# EAGLE library part MALE_2X10 (library be_con_jump)
drawn: Mario Blunk / Blunk electronic
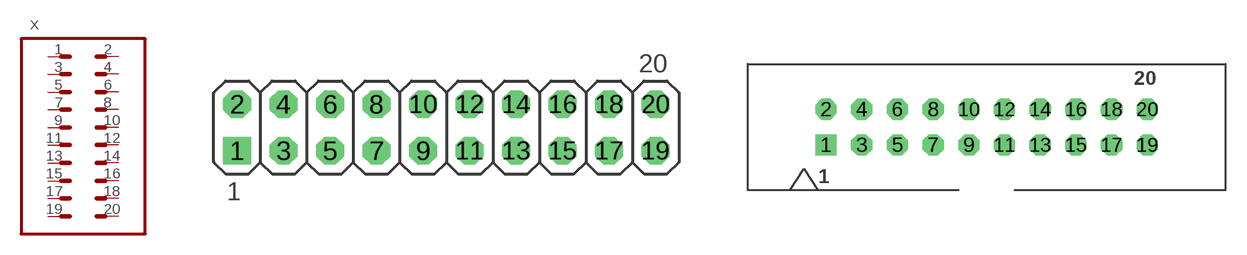
[diagram p4: symbol with the pads of T_MALE_2X10_VERTICAL_PITCH_2MM54; footprints T_MALE_2X10_VERTICAL_PITCH_2MM54, T_MALE_2X10_VERTICAL_PITCH_2M54_SHROUDED]

Designator prefix X

## MALE_2X10-T-VERTICAL_PITCH_2.54MM (BOM: YES; COMMISSIONED: 2013-08-30; PART_CODE_BEL: X_PAC_T_MALE_2X10_VERTICAL_PITCH_2mm54)  [T_MALE_2X10_VERTICAL_PITCH_2MM54]
1  1  pas
2  2  pas
3  3  pas
4  4  pas
5  5  pas
6  6  pas
7  7  pas
8  8  pas
9  9  pas
10  10  pas
11  11  pas
12  12  pas
13  13  pas
14  14  pas
15  15  pas
16  16  pas
17  17  pas
18  18  pas
19  19  pas
20  20  pas

## MALE_2X10-T-VERTICAL_PITCH_2MM54_SHROUDED (BOM: YES; COMMISSIONED: 2013-08-30; PART_CODE_BEL: X_PAC_T_MALE_2X10_VERTICAL_PITCH_2mm54_SHROUDED)  [T_MALE_2X10_VERTICAL_PITCH_2M54_SHROUDED]
Pads as for T_MALE_2X10_VERTICAL_PITCH_2MM54

## MALE_2X10-S-VERTICAL_1.27MM (BOM: YES; COMMISSIONED: 2013-08-30; PART_CODE_BEL: X_PAC_S_MALE_2X10_1364_SERIES_VERTICAL)  [S_MALE_2X10_VERTICAL_1.27MM]
Pads as for T_MALE_2X10_VERTICAL_PITCH_2MM54

## MALE_2X10-T-VERTICAL_1.27MM (BOM: YES; COMMISSIONED: 2013-12-17; PART_CODE_BEL: X_PAC_T_MALE_2X10_VERTICAL_1.27mm)  [T_MALE_2X10_VERTICAL_1.27MM]
Pads as for T_MALE_2X10_VERTICAL_PITCH_2MM54

## MALE_2X10-S-VERTICAL_2.54MM (BOM: YES; COMMISSIONED: 2014-02-03; PART_CODE_BEL: X_PAC_S_MALE_2X10_VERTICAL)  [S_MALE_2X10_VERTICAL]
Pads as for T_MALE_2X10_VERTICAL_PITCH_2MM54

## MALE_2X10-T-VERTICAL_2MM (BOM: YES; COMMISSIONED: 2014-03-19; PART_CODE_BEL: X_PAC_T_MALE_2X10_VERTICAL_2mm)  [T_MALE_2X10_VERTICAL_GRID_2MM]
Pads as for T_MALE_2X10_VERTICAL_PITCH_2MM54

## MALE_2X10-S-VERTICAL_2MM (BOM: YES; COMMISSIONED: 2014-03-19; PART_CODE_BEL: X_PAC_S_MALE_2X10_VERTICAL_2mm)  [S_MALE_2X10_VERTICAL_2MM]
Pads as for T_MALE_2X10_VERTICAL_PITCH_2MM54

## MALE_2X10-T-HORIZONTAL_PITCH_2M54 (BOM: YES; COMMISSIONED: 2019-05-16; PART_CODE_BEL: X_PAC_T_MALE_2X10_HORIZONTAL_PITCH_2mm54)  [T_MALE_2X10_HORIZONTAL_PITCH_2M54]
Pads as for T_MALE_2X10_VERTICAL_PITCH_2MM54

## Footprint T_MALE_2X10_VERTICAL_PITCH_2MM54 (pad centres in mm)
edited: Mario Blunk date: 2015-01-28
drill 1 square: 1 -11.43,-1.27
drill 1 octagon: 2 -11.43,1.27; 3 -8.89,-1.27; 4 -8.89,1.27; 5 -6.35,-1.27; 6 -6.35,1.27; 7 -3.81,-1.27; 8 -3.81,1.27; 9 -1.27,-1.27; 10 -1.27,1.27; 11 1.27,-1.27; 12 1.27,1.27; 13 3.81,-1.27; 14 3.81,1.27; 15 6.35,-1.27; 16 6.35,1.27; 17 8.89,-1.27; 18 8.89,1.27; 19 11.43,-1.27; 20 11.43,1.27

## Footprint T_MALE_2X10_VERTICAL_PITCH_2M54_SHROUDED (pad centres in mm)
edited: Mario Blunk / Blunk electronic date: 2019-05-20
drill 1 square: 1 -11.43,-1.27
drill 1 octagon: 2 -11.43,1.27; 3 -8.89,-1.27; 4 -8.89,1.27; 5 -6.35,-1.27; 6 -6.35,1.27; 7 -3.81,-1.27; 8 -3.81,1.27; 9 -1.27,-1.27; 10 -1.27,1.27; 11 1.27,-1.27; 12 1.27,1.27; 13 3.81,-1.27; 14 3.81,1.27; 15 6.35,-1.27; 16 6.35,1.27; 17 8.89,-1.27; 18 8.89,1.27; 19 11.43,-1.27; 20 11.43,1.27

## Footprint S_MALE_2X10_VERTICAL_1.27MM (pad centres in mm)
NOTE: No fixing post ! edited: Mario Blunk / Blunk electronic date: 2013-03-27
smd 0.76 x 2.4: 1 -5.715,-2.95; 2 -5.715,2.95; 3 -4.445,-2.95; 4 -4.445,2.95; 5 -3.175,-2.95; 6 -3.175,2.95; 7 -1.905,-2.95; 8 -1.905,2.95; 9 -0.635,-2.95; 10 -0.635,2.95; 11 0.635,-2.95; 12 0.635,2.95; 13 1.905,-2.95; 14 1.905,2.95; 15 3.175,-2.95; 16 3.175,2.95; 17 4.445,-2.95; 18 4.445,2.95; 19 5.715,-2.95; 20 5.715,2.95

## Footprint T_MALE_2X10_VERTICAL_1.27MM (pad centres in mm)
drawn: Mario Blunk / Blunk electronic edited: 2014-01-06
drill 0.65 pad 1.05 square: 1 -5.715,-0.635
drill 0.65 pad 1.05 octagon: 2 -5.715,0.635; 3 -4.445,-0.635; 4 -4.445,0.635; 5 -3.175,-0.635; 6 -3.175,0.635; 7 -1.905,-0.635; 8 -1.905,0.635; 9 -0.635,-0.635; 10 -0.635,0.635; 11 0.635,-0.635; 12 0.635,0.635; 13 1.905,-0.635; 14 1.905,0.635; 15 3.175,-0.635; 16 3.175,0.635; 17 4.445,-0.635; 18 4.445,0.635; 19 5.715,-0.635; 20 5.715,0.635

## Footprint S_MALE_2X10_VERTICAL (pad centres in mm)
male header package 2x10 drawn: Mario Blunk / Blunk electronic date: 2014-02-03
smd 1.5 x 4: 1 -11.43,-2.54; 2 -11.43,2.54; 3 -8.89,-2.54; 4 -8.89,2.54; 5 -6.35,-2.54; 6 -6.35,2.54; 7 -3.81,-2.54; 8 -3.81,2.54; 9 -1.27,-2.54; 10 -1.27,2.54; 11 1.27,-2.54; 12 1.27,2.54; 13 3.81,-2.54; 14 3.81,2.54; 15 6.35,-2.54; 16 6.35,2.54; 17 8.89,-2.54; 18 8.89,2.54; 19 11.43,-2.54; 20 11.43,2.54

## Footprint T_MALE_2X10_VERTICAL_GRID_2MM (pad centres in mm)
drawn: Mario Blunk / Blunk electronic edited: 2014-03-19
drill 0.8 square: 1 -4,-1
drill 0.8 octagon: 2 -4,1; 3 -2,-1; 4 -2,1; 5 0,-1; 6 0,1; 7 2,-1; 8 2,1; 9 4,-1; 10 4,1; 11 6,-1; 12 6,1; 13 8,-1; 14 8,1; 15 10,-1; 16 10,1; 17 12,-1; 18 12,1; 19 14,-1; 20 14,1

## Footprint S_MALE_2X10_VERTICAL_2MM (pad centres in mm)
drawn: Mario Blunk / Blunk electronic edited: 2014-03-19
smd 1 x 3: 1 -9,-2; 2 -9,2; 3 -7,-2; 4 -7,2; 5 -5,-2; 6 -5,2; 7 -3,-2; 8 -3,2; 9 -1,-2; 10 -1,2; 11 1,-2; 12 1,2; 13 3,-2; 14 3,2; 15 5,-2; 16 5,2; 17 7,-2; 18 7,2; 19 9,-2; 20 9,2

## Footprint T_MALE_2X10_HORIZONTAL_PITCH_2M54 (pad centres in mm)
edited: Mario Blunk / Blunk electronic date: 2019-05-16
drill 1.016 square: 1 -11.43,-6.35
drill 1.016 octagon: 2 -11.43,-3.81; 3 -8.89,-6.35; 4 -8.89,-3.81; 5 -6.35,-6.35; 6 -6.35,-3.81; 7 -3.81,-6.35; 8 -3.81,-3.81; 9 -1.27,-6.35; 10 -1.27,-3.81; 11 1.27,-6.35; 12 1.27,-3.81; 13 3.81,-6.35; 14 3.81,-3.81; 15 6.35,-6.35; 16 6.35,-3.81; 17 8.89,-6.35; 18 8.89,-3.81; 19 11.43,-6.35; 20 11.43,-3.81